# EAGLE library part ESP32-WROOM-32U (library ESP32-WROOM-32U)
Wi-Fi/BT BLE Module ESP32-D0WD SPI Flash UART U.FL Conn. Check prices <https://pricing.snapeda.com/parts/ESP32-WROOM-32U/Espressif%20Systems/view-part?ref=eda>
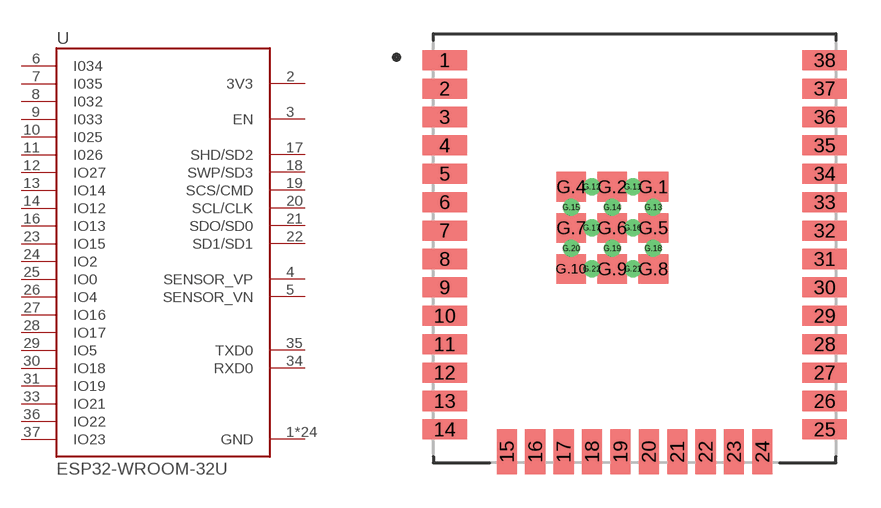
[diagram p0: symbol with the pads of XCVR_ESP32-WROOM-32U; footprint XCVR_ESP32-WROOM-32U]

Designator prefix U

## ESP32-WROOM-32U (Availability: In Stock; Description: Bluetooth, WiFi 802.11b/g/n, Bluetooth v4.2 +EDR, Class 1, 2 and 3 Transceiver Module 2.4GHz ~ 2.5GHz Antenna Not Included, U.FL Surface Mount; MF: Espressif Systems; MP: ESP32-WROOM-32U; Package: Module Espressif Systems; Price: None; Purchase-URL: https://pricing.snapeda.com/search/part/ESP32-WROOM-32U/?ref=eda)  [XCVR_ESP32-WROOM-32U]
1  GND  pwr
2  3V3  pwr
3  EN  in
4  SENSOR_VP  in
5  SENSOR_VN  in
6  I034  in
7  I035  in
8  I032
9  I033
10  I025
11  I026
12  IO27
13  IO14
14  IO12
15  GND  pwr
16  IO13
17  SHD/SD2
18  SWP/SD3
19  SCS/CMD
20  SCL/CLK
21  SDO/SD0
22  SD1/SD1
23  IO15
24  IO2
25  IO0
26  IO4
27  IO16
28  IO17
29  IO5
30  IO18
31  IO19
33  IO21
34  RXD0
35  TXD0
36  IO22
37  IO23
38  GND  pwr
G.1  GND  pwr
G.2  GND  pwr
G.4  GND  pwr
G.5  GND  pwr
G.6  GND  pwr
G.7  GND  pwr
G.8  GND  pwr
G.9  GND  pwr
G.10  GND  pwr
G.11  GND  pwr
G.12  GND  pwr
G.13  GND  pwr
G.14  GND  pwr
G.15  GND  pwr
G.16  GND  pwr
G.17  GND  pwr
G.18  GND  pwr
G.19  GND  pwr
G.20  GND  pwr
G.21  GND  pwr
G.22  GND  pwr

## Footprint XCVR_ESP32-WROOM-32U (pad centres in mm)
smd 2 x 0.9: 1 -8.5,8.41; 2 -8.5,7.14; 3 -8.5,5.87; 4 -8.5,4.6; 5 -8.5,3.33; 6 -8.5,2.06; 7 -8.5,0.79; 8 -8.5,-0.48; 9 -8.5,-1.75; 10 -8.5,-3.02; 11 -8.5,-4.29; 12 -8.5,-5.56; 13 -8.5,-6.83; 14 -8.5,-8.1; 25 8.5,-8.1; 26 8.5,-6.83; 27 8.5,-5.56; 28 8.5,-4.29; 29 8.5,-3.02; 30 8.5,-1.75; 31 8.5,-0.48; 32 8.5,0.79; 33 8.5,2.06; 34 8.5,3.33; 35 8.5,4.6; 36 8.5,5.87; 37 8.5,7.14; 38 8.5,8.41
smd 0.9 x 2: 15 -5.715,-9.1; 16 -4.445,-9.1; 17 -3.175,-9.1; 18 -1.905,-9.1; 19 -0.635,-9.1; 20 0.635,-9.1; 21 1.905,-9.1; 22 3.175,-9.1; 23 4.445,-9.1; 24 5.715,-9.1
smd 1.33 x 1.33: G.1 0.835,2.745; G.2 -1,2.745; G.4 -2.835,2.745; G.5 0.835,0.91; G.6 -1,0.91; G.7 -2.835,0.91; G.8 0.835,-0.925; G.9 -1,-0.925; G.10 -2.835,-0.925
drill 0.254: G.11 -0.083,2.745; G.12 -1.917,2.745; G.13 0.835,1.827; G.14 -1,1.827; G.15 -2.835,1.827; G.16 -0.083,0.91; G.17 -1.917,0.91; G.18 0.835,-0.007; G.19 -1,-0.007; G.20 -2.835,-0.007; G.21 -0.083,-0.925; G.22 -1.917,-0.925